# Altium footprint library custom-case.PcbLib: 44 footprints (part 3 of 3)
Each footprint in its own frame and in the unit in brackets; x right, y up, seen from the top. Pads: shape width x height; smd on the part's side, far side on the other; paste and mask are expansions set on the pad; w line width, h text height; cw(c..) or ccw(c..) is an arc to the next point about the centre after c.
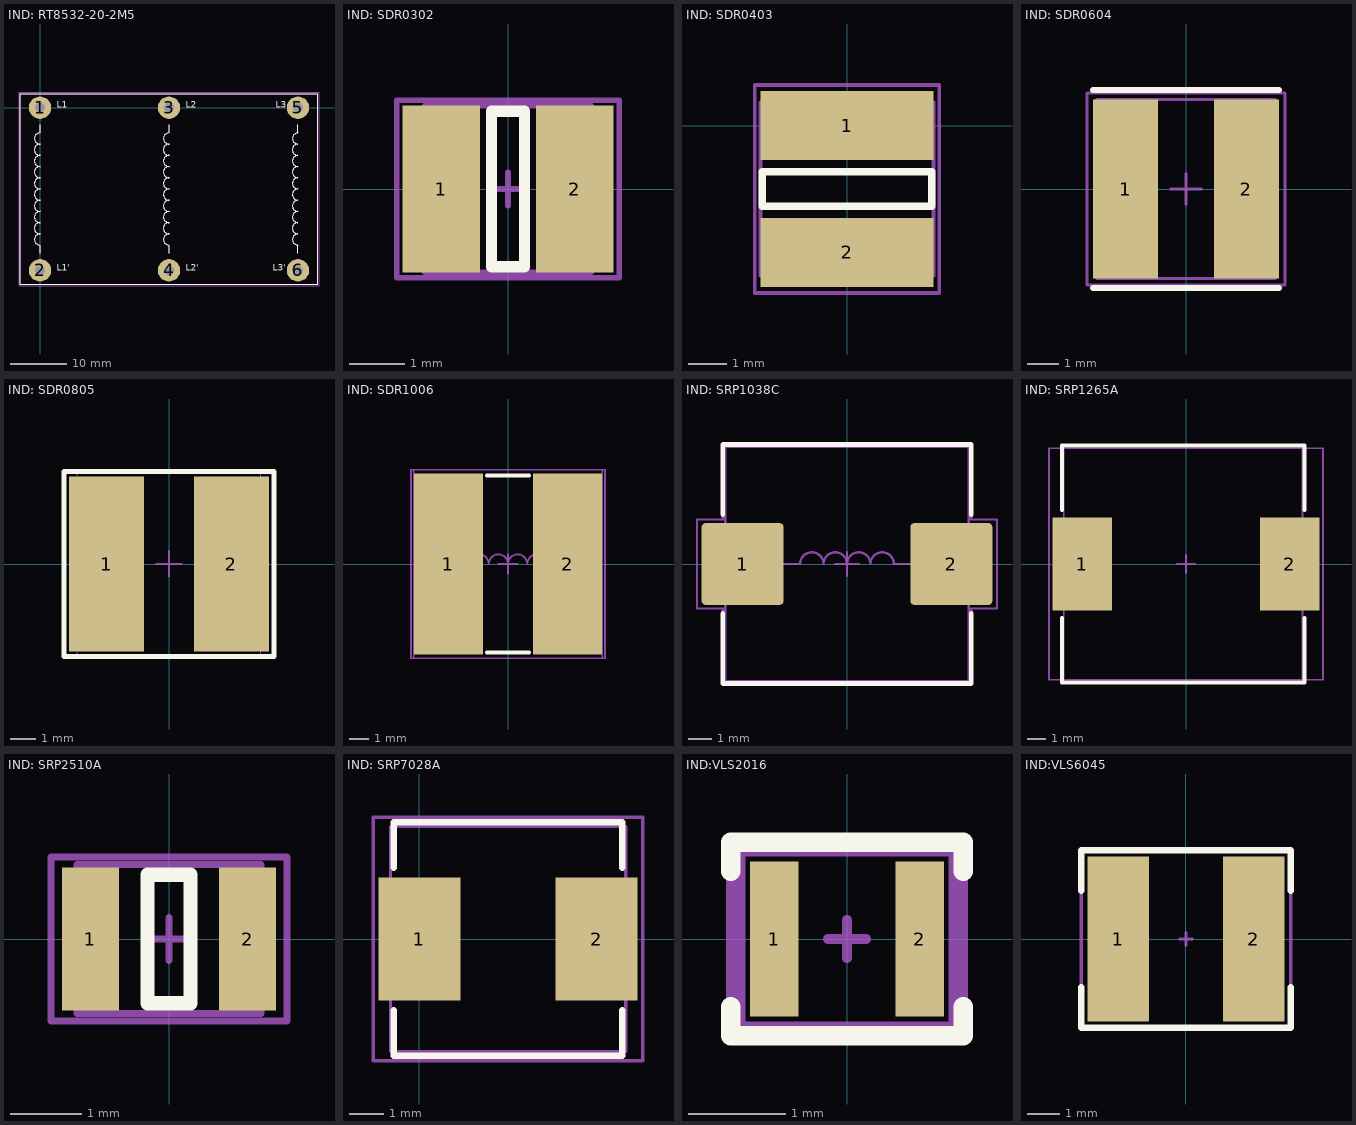
[diagram p2: the footprints below, top view; thin cyan lines are the x and y axes]

## IND: RT8532-20-2M5 [mm]
pads (6):
  round 4 hole 1.8: 1(0,0) 2(0,-29) 3(23,0) 4(23,-29) 5(46,0) 6(46,-29)
Top Overlay:
  lines w0.2: 0,-26 0,-24.5 cw(c0,-23.5) 0,-22.5 cw(c0,-21.5) 0,-20.5 cw(c0,-19.5) 0,-18.5 cw(c0,-17.5) 0,-16.5 cw(c0,-15.5) 0,-14.5 cw(c0,-13.5) 0,-12.5 cw(c0,-11.5) 0,-10.5 cw(c0,-9.5) 0,-8.5 cw(c0,-7.5) 0,-6.5 cw(c0,-5.5) 0,-4.5 0,-3 ; 23,-26 23,-24.5 cw(c23,-23.5) 23,-22.5 cw(c23,-21.5) 23,-20.5 cw(c23,-19.5) 23,-18.5 cw(c23,-17.5) 23,-16.5 cw(c23,-15.5) 23,-14.5 cw(c23,-13.5) 23,-12.5 cw(c23,-11.5) 23,-10.5 cw(c23,-9.5) 23,-8.5 cw(c23,-7.5) 23,-6.5 cw(c23,-5.5) 23,-4.5 23,-3 ; 46,-26 46,-24.5 cw(c46,-23.5) 46,-22.5 cw(c46,-21.5) 46,-20.5 cw(c46,-19.5) 46,-18.5 cw(c46,-17.5) 46,-16.5 cw(c46,-15.5) 46,-14.5 cw(c46,-13.5) 46,-12.5 cw(c46,-11.5) 46,-10.5 cw(c46,-9.5) 46,-8.5 cw(c46,-7.5) 46,-6.5 cw(c46,-5.5) 46,-4.5 46,-3 ; -3.5,-31.5 49.5,-31.5 49.5,2.5 -3.5,2.5 -3.5,-31.5
  text "L2" at 26,-0.5 h2
  text "L2'" at 26,-29.5 h2
  text "L3" at 42,-0.5 h2
  text "L1" at 3,-0.5 h2
  text "L3'" at 41.5,-29.5 h2
  text "L1'" at 3,-29.5 h2
Top Assy:
  lines w0.1: 0,-26 0,-24.5 cw(c0,-23.5) 0,-22.5 cw(c0,-21.5) 0,-20.5 cw(c0,-19.5) 0,-18.5 cw(c0,-17.5) 0,-16.5 cw(c0,-15.5) 0,-14.5 cw(c0,-13.5) 0,-12.5 cw(c0,-11.5) 0,-10.5 cw(c0,-9.5) 0,-8.5 cw(c0,-7.5) 0,-6.5 cw(c0,-5.5) 0,-4.5 0,-3 ; 23,-26 23,-24.5 cw(c23,-23.5) 23,-22.5 cw(c23,-21.5) 23,-20.5 cw(c23,-19.5) 23,-18.5 cw(c23,-17.5) 23,-16.5 cw(c23,-15.5) 23,-14.5 cw(c23,-13.5) 23,-12.5 cw(c23,-11.5) 23,-10.5 cw(c23,-9.5) 23,-8.5 cw(c23,-7.5) 23,-6.5 cw(c23,-5.5) 23,-4.5 23,-3 ; 46,-26 46,-24.5 cw(c46,-23.5) 46,-22.5 cw(c46,-21.5) 46,-20.5 cw(c46,-19.5) 46,-18.5 cw(c46,-17.5) 46,-16.5 cw(c46,-15.5) 46,-14.5 cw(c46,-13.5) 46,-12.5 cw(c46,-11.5) 46,-10.5 cw(c46,-9.5) 46,-8.5 cw(c46,-7.5) 46,-6.5 cw(c46,-5.5) 46,-4.5 46,-3 ; -3.5,-31.5 -3.5,2 -3.5,2.5 49.5,2.5 49.5,-31.5 -3.5,-31.5
  text "L1" at 3,-0.5 h2
  text "L1'" at 3,-29.5 h2
  text "L2" at 26,-0.5 h2
  text "L2'" at 26,-29.5 h2
  text "L3" at 42,-0.5 h2
  text "L3'" at 41.5,-29.5 h2
Size Area:
  lines w0.1: -3.75,-31.75 49.75,-31.75 49.75,2.75 -3.75,2.75 -3.75,-31.75
3D body "RT8532-20-2M5.STEP": height 54.93, standoff -4, extent -3.5,-31.5 49.5,2.5

## IND: SDR0302 [mm]
pads (2):
  rect 1.4x3 smd mask+0.075: 1(-1.2,0) 2(1.2,0)
Top Overlay:
  lines w0.2: -0.3,-1.4 -0.3,1.4 0.3,1.4 0.3,-1.4 -0.3,-1.4
3D model:
  lines w0.1: -1.5,-1.5 -1.5,1.5 1.5,1.5 1.5,-1.5 -1.5,-1.5
Size Area:
  lines w0.1: -0.3,0 0.3,0 ; 0,-0.3 0,0.3 ; -2,-1.6 2,-1.6 2,1.6 -2,1.6 -2,-1.6
3D body "User Library-SDR0302.STEP": height 3, standoff 0, extent -1.492,-1.5 1.492,1.5

## IND: SDR0403 [mm]
pads (2):
  rect 4.5x1.8 smd: 1(0,0) 2(0,-3.3)
Top Overlay:
  lines w0.2: -2.2,-2.1 -2.2,-1.2 2.2,-1.2 2.2,-2.1 -2.2,-2.1
Top Assy:
  lines w0.1: -2.25,-3.9 2.25,-3.9 2.25,0.6 -2.25,0.6 -2.25,0.25 -2.25,-3.9
Size Area:
  lines w0.1: -2.4,-4.35 -2.4,1.05 2.4,1.05 2.4,-4.35 -2.4,-4.35
3D body "User Library-SDR0403.STEP": height 3.5, standoff 0, extent -2.25,-3.9 2.25,0.6

## IND: SDR0604 [mm]
pads (2):
  rect 2.1x5.8 smd: 1(-1.95,0) 2(1.95,0)
Top Overlay:
  lines w0.2: -3,-3.2 3,-3.2 ; -3,3.2 3,3.2
Top Assy:
  lines w0.1: -2.9,-2.9 -2.9,2.9 2.9,2.9 2.9,-2.9 -2.9,-2.9
Size Area:
  lines w0.1: -0.5,0 0.5,0 ; 0,-0.5 0,0.5 ; -3.2,-3.1 -3.2,3.1 3.2,3.1 3.2,-3.1 -3.2,-3.1
3D body "SDR0604.STEP": height 4.8, standoff 0, extent -2.9,-2.9 2.9,2.9

## IND: SDR0805 [mm]
height 5.3
pads (2):
  rect 3x7 smd: 1(-2.5,0) 2(2.5,0)
Top Overlay:
  lines w0.2: -4.2,-3.7 -4.2,3.7 4.2,3.7 4.2,-3.7 -4.2,-3.7
Top Assy:
  lines w0.05: -3.675,-3.75 -3.675,3.75 3.675,3.75 3.675,-3.75 -3.675,-3.75
Size Area:
  lines w0.1: -0.5,0 0.5,0 ; 0,-0.5 0,0.5 ; -4.2,-3.7 4.2,-3.7 4.2,3.725 -4.2,3.725 -4.2,-3.7
3D body "SDR0805.STEP": height 5.08, standoff 0.03, extent -3.677,-3.75 3.677,3.75

## IND: SDR1006 [mm]
pads (2):
  rect 3.6x9.4 smd: 1(-3.1,0) 2(3.1,0)
Top Overlay:
  lines w0.2: -1.1,-4.6 1.1,-4.6 ; -1.1,4.6 1.1,4.6
Top Assy:
  lines w0.1: -4.2,0 -3,0 cw(c-2.5,0) -2,0 cw(c-1.5,0) -1,0 cw(c-0.5,0) 0,0 cw(c0.5,0) 1,0 cw(c1.5,0) 2,0 cw(c2.5,0) 3,0 4.2,0 ; -4.9,-4.9 4.9,-4.9 4.9,4.9 -4.9,4.9 -4.9,-4.9
Size Area:
  lines w0.1: -0.5,0 0.5,0 ; 0,-0.5 0,0.5 ; -5.05,-4.9 -5.05,4.9 5.05,4.9 5.05,-4.9 -5.05,-4.9
3D body "SDR1006.STEP": height 5.8, standoff 0, extent -4.9,-4.9 4.9,4.9

## IND: SRP1038C [mm]
pads (2):
  rrect10% 3.5x3.5 smd mask+0.102: 1(-4.45,0) 2(4.45,0)
Top Overlay:
  lines w0.2: -5.3,-2.1 -5.3,-5.1 5.3,-5.1 5.3,-2.1 ; -5.3,2.1 -5.3,5.1 5.3,5.1 5.3,2.1
Top Assy:
  lines w0.1: -4,0 -2,0 cw(c-1.5,0) -1,0 cw(c-0.5,0) 0,0 cw(c0.5,0) 1,0 cw(c1.5,0) 2,0 4,0 ; -5.2,-5 -5.2,5 5.2,5 5.2,-5 -5.2,-5
Size Area:
  lines w0.1: -0.5,0 0.5,0 ; 0,-0.5 0,0.5 ; -6.4,-1.9 -5.3,-1.9 -5.3,-5.1 5.3,-5.1 5.3,-1.9 6.4,-1.9 6.4,1.9 5.3,1.9 5.3,5.1 -5.3,5.1 -5.3,1.9 -6.4,1.9 -6.4,-1.9
3D body "SRP1038A.STEP": height 3.8, standoff 0.05, extent -5.2,-5 5.2,5

## IND: SRP1265A [mm]
pads (2):
  rect 3.2x5 smd: 1(-5.6,0) 2(5.6,0)
Top Overlay:
  lines w0.2: -6.7,-2.9 -6.7,-6.4 6.4,-6.4 6.4,-2.9 ; -6.7,2.9 -6.7,6.4 6.4,6.4 6.4,2.9
Top Assy:
  lines w0.1: -6.6,-6.25 6.3,-6.25 6.3,6.25 -6.6,6.25 -6.6,-6.25
Size Area:
  lines w0.1: -0.5,0 0.5,0 ; 0,-0.5 0,0.5 ; -7.4,-6.25 7.4,-6.25 7.4,6.25 -7.4,6.25 -7.4,-6.25
3D body "SRP1265A series.stp": height 6.31, standoff 0, extent -6.6,-6.25 6.3,6.25

## IND: SRP2510A [mm]
pads (2):
  rect 0.8x2 smd: 1(-1.1,0) 2(1.1,0)
Top Overlay:
  lines w0.2: -0.3,-0.9 0.3,-0.9 0.3,0.9 -0.3,0.9 -0.3,-0.9
Top Assy:
  lines w0.1: -1.285,-1.045 1.285,-1.045 1.285,1.045 -1.285,1.045 -1.285,-1.045
Size Area:
  lines w0.1: -0.3,0 0.3,0 ; 0,-0.3 0,0.3 ; -1.65,-1.15 1.65,-1.15 1.65,1.15 -1.65,1.15 -1.65,-1.15
3D body "666.step": height 0.97, standoff 0.01, extent -1.285,-1.045 1.285,1.045

## IND: SRP7028A [mm]
pads (2):
  rect 2.4x3.6 smd: 1(0,0) 2(5.2,0)
Top Overlay:
  lines w0.2: -0.75,-2.1 -0.75,-3.425 5.95,-3.425 5.95,-2.1 ; -0.75,2.1 -0.75,3.425 5.95,3.425 5.95,2.1
Top Assy:
  lines w0.1: -0.847,-3.301 6.053,-3.301 6.053,3.299 -0.847,3.299 -0.847,-3.301
Size Area:
  lines w0.1: -1.35,-3.575 -1.35,3.575 6.55,3.575 6.55,-3.575 -1.35,-3.575
3D body "SRP 7028A series.STEP": height 2.83, standoff 0, extent -0.847,-3.301 6.053,3.299

## IND:VLS2016 [mm]
pads (2):
  rect 0.5x1.6 smd: 1(-0.75,0) 2(0.75,0)
Top Overlay:
  lines w0.2: -1.2,-0.7 -1.2,-1 1.2,-1 1.2,-0.7 ; -1.2,0.7 -1.2,1 1.2,1 1.2,0.7
Top Assy:
  lines w0.1: -1.1,-0.9 -1.1,0.9 1.1,0.9 1.1,-0.9 -1.1,-0.9
Size Area:
  lines w0.1: -0.2,0 0.2,0 ; 0,-0.2 0,0.2 ; -1.2,-1 -1.2,1 1.2,1 1.2,-1 -1.2,-1
3D body "vls201610hbx-1.step": height 0.99, standoff -0.01, extent -1,-0.8 1,0.8

## IND:VLS6045 [mm]
pads (2):
  rect 1.9x5.1 smd: 1(-2.1,0) 2(2.1,0)
Top Overlay:
  lines w0.2: -3.25,-1.5 -3.25,-2.75 3.25,-2.75 3.25,-1.5 ; -3.25,1.494 -3.25,2.75 3.25,2.75 3.25,1.5
Top Assy:
  lines w0.1: -3.25,2.75 -3.25,-2.75 3.25,-2.75 3.25,2.75 -3.241,2.75
Size Area:
  lines w0.1: -0.2,0 0.2,0 ; 0,-0.2 0,0.2 ; -3.25,-2.75 3.25,-2.75 3.25,2.75 -3.25,2.75 -3.25,-2.75
3D body "vls6045ex.step": height 4.49, standoff -0.01, extent -3,-3 3,3